# EAGLE library part PIC10F (library microchip-special)
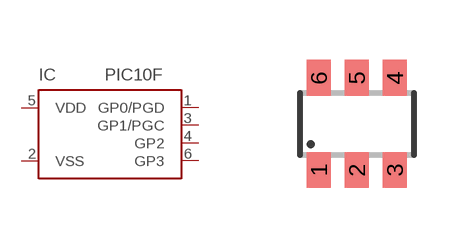
[diagram p10: symbol with the pads of SOT23-6; footprint SOT23-6]

Designator prefix IC

## PIC10F/OT  [SOT23-6]
1  GP0/PGD
2  VSS  pwr
3  GP1/PGC
4  GP2
5  VDD  pwr
6  GP3  in

## Footprint SOT23-6 (pad centres in mm)
Small Outline Transistor 6 lead
smd 0.6 x 0.9: 1 -0.95,-1.15; 2 0,-1.15; 3 0.95,-1.15; 4 0.95,1.15; 5 0,1.15; 6 -0.95,1.15